# Altium footprint library TQFN-16_2.5x2.5x04P.PcbLib: 1 footprints
Each footprint in its own frame and in the unit in brackets; x right, y up, seen from the top. Pads: shape width x height; smd on the part's side, far side on the other; paste and mask are expansions set on the pad; w line width, h text height; cw(c..) or ccw(c..) is an arc to the next point about the centre after c.
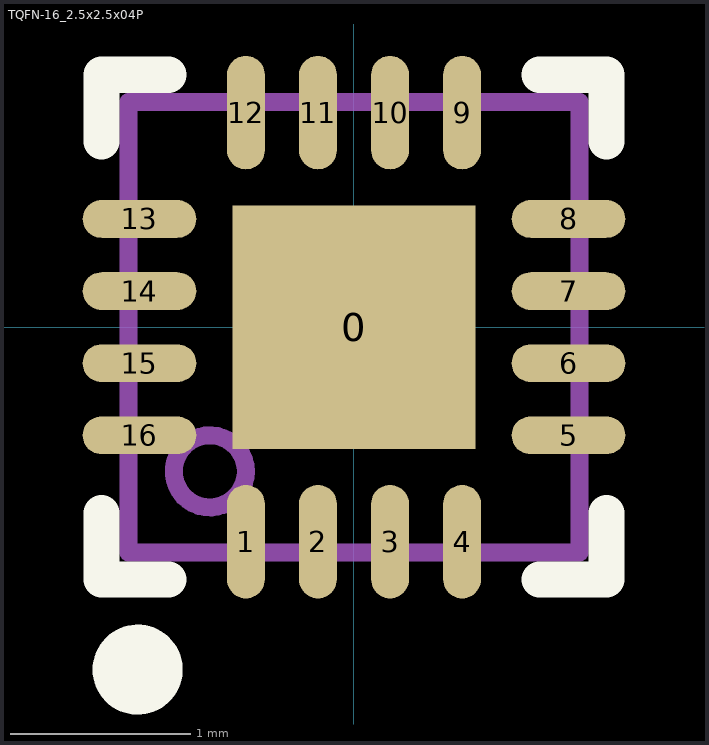
[diagram p0: the footprint, top view; thin cyan lines are the x and y axes]

## TQFN-16_2.5x2.5x04P [mm] "QFN, 16-Leads, Body 3.00x3.00mm, Pitch 0.50mm, Thermal Pad 1.70x1.70mm, IPC Medium Density"
height 1
pads (17):
  rect 1.35x1.35 smd mask+0.051: 0(0,0)
  oval 0.21x0.63 smd mask+0.051: 1(-0.6,-1.19) 2(-0.2,-1.19) 3(0.2,-1.19) 4(0.6,-1.19) 9(0.6,1.19) 10(0.2,1.19) 11(-0.2,1.19) 12(-0.6,1.19)
  oval 0.63x0.21 smd mask+0.051: 5(1.19,-0.6) 6(1.19,-0.2) 7(1.19,0.2) 8(1.19,0.6) 13(-1.19,0.6) 14(-1.19,0.2) 15(-1.19,-0.2) 16(-1.19,-0.6)
Top Overlay:
  circle w0.25: c-1.2,-1.9 r0.125
  lines w0.2: -1.4,-1.03 -1.4,-1.4 -1.03,-1.4 ; -1.4,1.03 -1.4,1.4 -1.03,1.4 ; 1.03,-1.4 1.4,-1.4 1.4,-1.03 ; 1.03,1.4 1.4,1.4 1.4,1.03
Mechanical 13:
  circle w0.1: c-0.8,-0.8 r0.2
  lines w0.1: -1.25,-1.25 1.25,-1.25 1.25,1.25 -1.25,1.25 -1.25,-1.25